# Altium schematic symbol library SQ4917CEY-T1_GE3.SchLib: 1 symbol
Pins are listed as number, name and electrical type; pins without a type are passive.

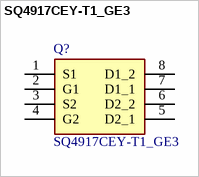
[diagram p0: symbol SQ4917CEY-T1_GE3]

## SQ4917CEY-T1_GE3
designator Q?
MOSFET Automotive Dual P-Channel 60V 175CmOSFET 48mO 10V, 61.2mO 4.5V; Manufacturer_Name: Vishay; Geometry.Height: 1.75mm; Manufacturer_Part_Number: SQ4917CEY-T1_GE3; Mouser Part Number: 78-SQ4917CEY-T1_GE3; Mouser Price/Stock: https://www.mouser.co.uk/ProductDetail/Vishay-Semiconductors/SQ4917CEY-T1_GE3?qs=Y0Uzf4wQF3m%252Bt%252BVrseINGQ%3D%3D; Arrow Part Number: *; Arrow Price/Stock: *; Datasheet Link: https://www.vishay.com/docs/62019/sq4917cey.pdf
footprint SOIC127P600X175-8N
pins: 1 S1, 2 G1, 3 S2, 4 G2, 5 D2_1, 6 D2_2, 7 D1_1, 8 D1_2